# Altium schematic symbol library ludi_v1.SchLib: 4 symbols
Pins are listed as number, name and electrical type; pins without a type are passive.

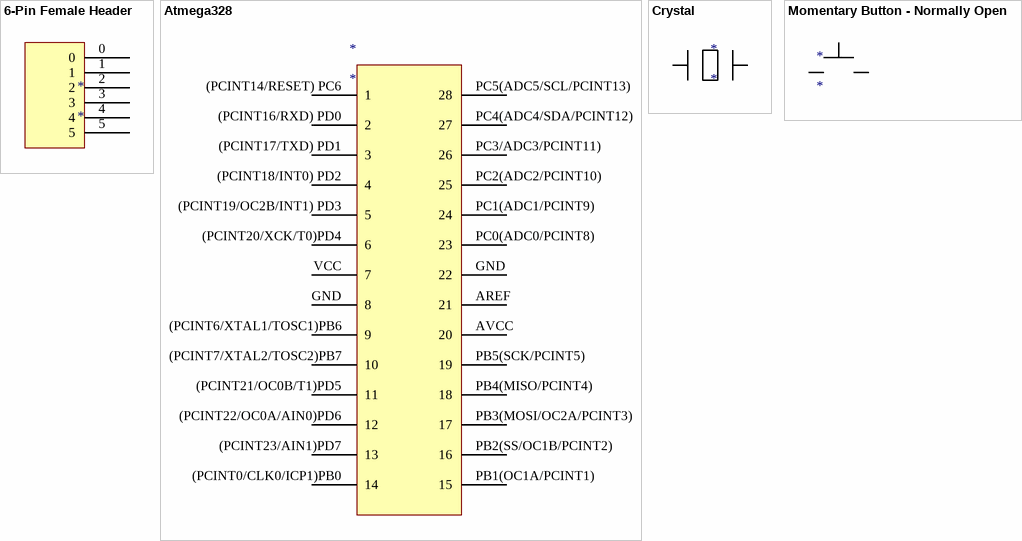
[diagram p0: symbols 6-Pin Female Header to Momentary Button - Normally Open]

## 6-Pin Female Header
designator *
pins: 0  0, 1  1, 2  2, 3  3, 4  4, 5  5

## Atmega328
designator *
footprint DIP-28 (DIP, 28-Pin, Row Spacing 7.62 mm, Pitch 2.54 mm)
pins: (PCINT0/CLK0/ICP1)PB0 14, (PCINT6/XTAL1/TOSC1)PB6 9, (PCINT7/XTAL2/TOSC2)PB7 10, (PCINT14/RESET) PC6 1, (PCINT16/RXD) PD0 2, (PCINT17/TXD) PD1 3, (PCINT18/INT0) PD2 4, (PCINT19/OC2B/INT1) PD3 5, (PCINT20/XCK/T0)PD4 6, (PCINT21/OC0B/T1)PD5 11, (PCINT22/OC0A/AIN0)PD6 12, (PCINT23/AIN1)PD7 13, AREF 21, AVCC 20, GND 8, GND 22, PB1(OC1A/PCINT1) 15, PB2(SS/OC1B/PCINT2) 16, PB3(MOSI/OC2A/PCINT3) 17, PB4(MISO/PCINT4) 18, PB5(SCK/PCINT5) 19, PC0(ADC0/PCINT8) 23, PC1(ADC1/PCINT9) 24, PC2(ADC2/PCINT10) 25, PC3/ADC3/PCINT11) 26, PC4(ADC4/SDA/PCINT12) 27, PC5(ADC5/SCL/PCINT13) 28, VCC 7

## Crystal
designator *
pins: 0, 1

## Momentary Button - Normally Open
designator *
pins: 0, 1